# Altium schematic symbol library Capacitor - RF.SchLib: 172 symbols (part 2 of 3)
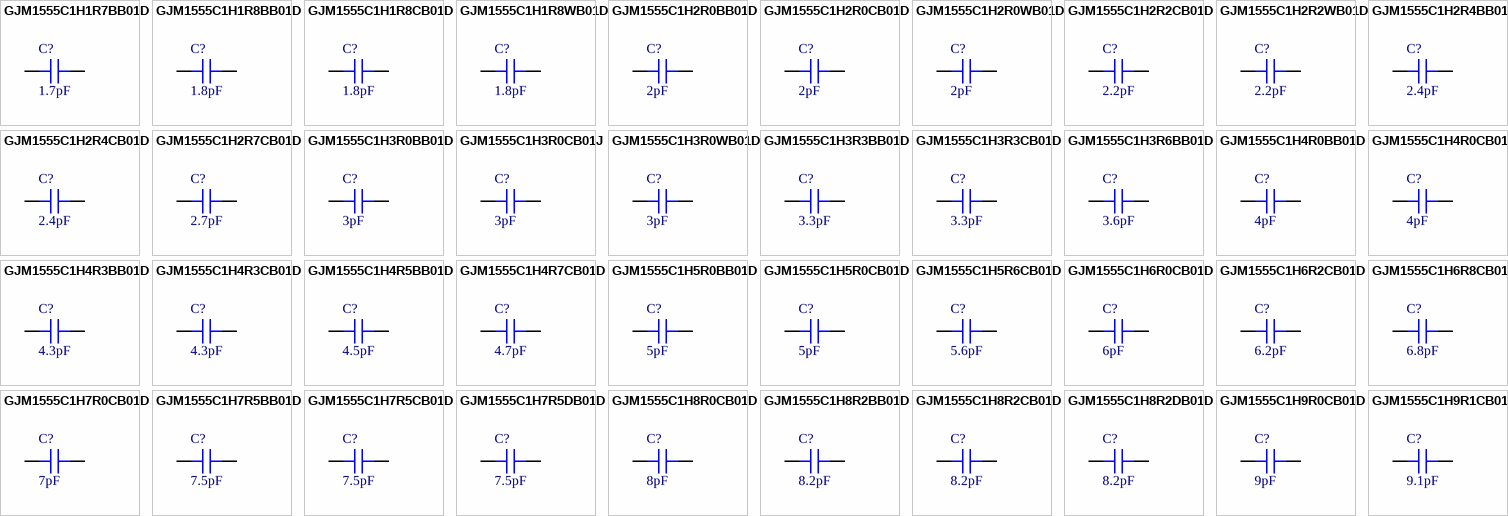
[diagram p5: symbols GJM1555C1H1R7BB01D to GJM1555C1H9R1CB01D]

## GJM1555C1H5R0CB01D
designator C?, comment 5pF
CAP CER 5PF 50V NP0 0402; Part Number: GJM1555C1H5R0CB01D; Manufacturer: Murata Electronics North America; TemperatureRange: -55C ~ 125C; TemperatureCoefficient: C0G, NP0; Tolerance: 0.25pF; Type: High Q, Low Loss; Value: 5pF; PartId: 3722; Supplier 1: Digi-Key; Supplier Part Number 1: 490-3101-2-ND; ComponentLink1Description: Datasheet; ComponentLink1URL: http://www.murata.com/~/media/webrenewal/support/library/catalog/products/capacitor/mlcc/c02e.ashx; ComponentLink2Description: Digi-Key listing; ComponentLink2URL: http://digikey.com/product-detail/en/GJM1555C1H5R0CB01D/490-3101-2-ND/702294; Voltage: 50V; Price: 0.016; Device Package: 0402 (1005 Metric)
footprint CAP 0402/1005 RF
pins: 1, 2

## GJM1555C1H5R6CB01D
designator C?, comment 5.6pF
CAP CER 5.6PF 50V NP0 0402; Part Number: GJM1555C1H5R6CB01D; Manufacturer: Murata Electronics North America; TemperatureRange: -55C ~ 125C; TemperatureCoefficient: C0G, NP0; Tolerance: 0.25pF; Type: High Q, Low Loss; Value: 5.6pF; PartId: 3734; Supplier 1: Digi-Key; Supplier Part Number 1: 490-3103-2-ND; ComponentLink1Description: Datasheet; ComponentLink1URL: http://www.murata.com/~/media/webrenewal/support/library/catalog/products/capacitor/mlcc/c02e.ashx; ComponentLink2Description: Digi-Key listing; ComponentLink2URL: http://digikey.com/product-detail/en/GJM1555C1H5R6CB01D/490-3103-2-ND/702296; Voltage: 50V; Price: 0.0211; Device Package: 0402 (1005 Metric)
footprint CAP 0402/1005 RF
pins: 1, 2

## GJM1555C1H6R0CB01D
designator C?, comment 6pF
CAP CER 6PF 50V NP0 0402; Part Number: GJM1555C1H6R0CB01D; Manufacturer: Murata Electronics North America; TemperatureRange: -55C ~ 125C; TemperatureCoefficient: C0G, NP0; Tolerance: 0.25pF; Type: High Q, Low Loss; Value: 6pF; PartId: 3726; Supplier 1: Digi-Key; Supplier Part Number 1: 490-3104-2-ND; ComponentLink1Description: Datasheet; ComponentLink1URL: http://www.murata.com/~/media/webrenewal/support/library/catalog/products/capacitor/mlcc/c02e.ashx; ComponentLink2Description: Digi-Key listing; ComponentLink2URL: http://digikey.com/product-detail/en/GJM1555C1H6R0CB01D/490-3104-2-ND/702297; Voltage: 50V; Price: 0.0211; Device Package: 0402 (1005 Metric)
footprint CAP 0402/1005 RF
pins: 1, 2

## GJM1555C1H6R2CB01D
designator C?, comment 6.2pF
CAP CER 6.2PF 50V NP0 0402; Part Number: GJM1555C1H6R2CB01D; Manufacturer: Murata Electronics North America; TemperatureRange: -55C ~ 125C; TemperatureCoefficient: C0G, NP0; Tolerance: 0.25pF; Type: High Q, Low Loss; Value: 6.2pF; PartId: 3725; Supplier 1: Digi-Key; Supplier Part Number 1: 490-3105-2-ND; ComponentLink1Description: Datasheet; ComponentLink1URL: http://www.murata.com/~/media/webrenewal/support/library/catalog/products/capacitor/mlcc/c02e.ashx; ComponentLink2Description: Digi-Key listing; ComponentLink2URL: http://digikey.com/product-detail/en/GJM1555C1H6R2CB01D/490-3105-2-ND/702298; Voltage: 50V; Price: 0.0211; Device Package: 0402 (1005 Metric)
footprint CAP 0402/1005 RF
pins: 1, 2

## GJM1555C1H6R8CB01D
designator C?, comment 6.8pF
CAP CER 6.8PF 50V NP0 0402; Part Number: GJM1555C1H6R8CB01D; Manufacturer: Murata Electronics North America; TemperatureRange: -55C ~ 125C; TemperatureCoefficient: C0G, NP0; Tolerance: 0.25pF; Type: High Q, Low Loss; Value: 6.8pF; PartId: 3723; Supplier 1: Digi-Key; Supplier Part Number 1: 490-3106-2-ND; ComponentLink1Description: Datasheet; ComponentLink1URL: http://www.murata.com/~/media/webrenewal/support/library/catalog/products/capacitor/mlcc/c02e.ashx; ComponentLink2Description: Digi-Key listing; ComponentLink2URL: http://digikey.com/product-detail/en/GJM1555C1H6R8CB01D/490-3106-2-ND/702299; Voltage: 50V; Price: 0.0211; Device Package: 0402 (1005 Metric)
footprint CAP 0402/1005 RF
pins: 1, 2

## GJM1555C1H7R0CB01D
designator C?, comment 7pF
CAP CER 7PF 50V NP0 0402; Part Number: GJM1555C1H7R0CB01D; Manufacturer: Murata Electronics North America; TemperatureRange: -55C ~ 125C; TemperatureCoefficient: C0G, NP0; Tolerance: 0.25pF; Type: High Q, Low Loss; Value: 7pF; PartId: 3736; Supplier 1: Digi-Key; Supplier Part Number 1: 490-3107-2-ND; ComponentLink1Description: Datasheet; ComponentLink1URL: http://www.murata.com/~/media/webrenewal/support/library/catalog/products/capacitor/mlcc/c02e.ashx; ComponentLink2Description: Digi-Key listing; ComponentLink2URL: http://digikey.com/product-detail/en/GJM1555C1H7R0CB01D/490-3107-2-ND/702300; Voltage: 50V; Price: 0.0211; Device Package: 0402 (1005 Metric)
footprint CAP 0402/1005 RF
pins: 1, 2

## GJM1555C1H7R5BB01D
designator C?, comment 7.5pF
CAP CER 7.5PF 50V NP0 0402; Part Number: GJM1555C1H7R5BB01D; Manufacturer: Murata Electronics North America; TemperatureRange: -55C ~ 125C; TemperatureCoefficient: C0G, NP0; Tolerance: 0.1pF; Type: High Q, Low Loss; Value: 7.5pF; PartId: 3786; Supplier 1: Digi-Key; Supplier Part Number 1: 490-11235-2-ND; ComponentLink1Description: Datasheet; ComponentLink1URL: http://www.murata.com/~/media/webrenewal/support/library/catalog/products/capacitor/mlcc/c02e.ashx; ComponentLink2Description: Digi-Key listing; ComponentLink2URL: http://digikey.com/product-detail/en/GJM1555C1H7R5BB01D/490-11235-2-ND/2593128; Voltage: 50V; Price: 0.0393; Device Package: 0402 (1005 Metric)
footprint CAP 0402/1005 RF
pins: 1, 2

## GJM1555C1H7R5CB01D
designator C?, comment 7.5pF
CAP CER 7.5PF 50V NP0 0402; Part Number: GJM1555C1H7R5CB01D; Manufacturer: Murata Electronics North America; TemperatureRange: -55C ~ 125C; TemperatureCoefficient: C0G, NP0; Tolerance: 0.25pF; Type: High Q, Low Loss; Value: 7.5pF; PartId: 3728; Supplier 1: Digi-Key; Supplier Part Number 1: 490-3108-2-ND; ComponentLink1Description: Datasheet; ComponentLink1URL: http://www.murata.com/~/media/webrenewal/support/library/catalog/products/capacitor/mlcc/c02e.ashx; ComponentLink2Description: Digi-Key listing; ComponentLink2URL: http://digikey.com/product-detail/en/GJM1555C1H7R5CB01D/490-3108-2-ND/702301; Voltage: 50V; Price: 0.0211; Device Package: 0402 (1005 Metric)
footprint CAP 0402/1005 RF
pins: 1, 2

## GJM1555C1H7R5DB01D
designator C?, comment 7.5pF
CAP CER 7.5PF 50V NP0 0402; Part Number: GJM1555C1H7R5DB01D; Manufacturer: Murata Electronics North America; TemperatureRange: -55C ~ 125C; TemperatureCoefficient: C0G, NP0; Tolerance: 0.5pF; Type: High Q, Low Loss; Value: 7.5pF; PartId: 3785; Supplier 1: Digi-Key; Supplier Part Number 1: 490-6075-2-ND; ComponentLink1Description: Datasheet; ComponentLink1URL: http://www.murata.com/~/media/webrenewal/support/library/catalog/products/capacitor/mlcc/c02e.ashx; ComponentLink2Description: Digi-Key listing; ComponentLink2URL: http://digikey.com/product-detail/en/GJM1555C1H7R5DB01D/490-6075-2-ND/2593131; Voltage: 50V; Price: 0.0211; Device Package: 0402 (1005 Metric)
footprint CAP 0402/1005 RF
pins: 1, 2

## GJM1555C1H8R0CB01D
designator C?, comment 8pF
CAP CER 8PF 50V NP0 0402; Part Number: GJM1555C1H8R0CB01D; Manufacturer: Murata Electronics North America; TemperatureRange: -55C ~ 125C; TemperatureCoefficient: C0G, NP0; Tolerance: 0.25pF; Type: High Q, Low Loss; Value: 8pF; PartId: 3731; Supplier 1: Digi-Key; Supplier Part Number 1: 490-3109-2-ND; ComponentLink1Description: Datasheet; ComponentLink1URL: http://www.murata.com/~/media/webrenewal/support/library/catalog/products/capacitor/mlcc/c02e.ashx; ComponentLink2Description: Digi-Key listing; ComponentLink2URL: http://digikey.com/product-detail/en/GJM1555C1H8R0CB01D/490-3109-2-ND/702302; Voltage: 50V; Price: 0.0211; Device Package: 0402 (1005 Metric)
footprint CAP 0402/1005 RF
pins: 1, 2

## GJM1555C1H8R2BB01D
designator C?, comment 8.2pF
CAP CER 8.2PF 50V NP0 0402; Part Number: GJM1555C1H8R2BB01D; Manufacturer: Murata Electronics North America; TemperatureRange: -55C ~ 125C; TemperatureCoefficient: C0G, NP0; Tolerance: 0.1pF; Type: High Q, Low Loss; Value: 8.2pF; PartId: 3773; Supplier 1: Digi-Key; Supplier Part Number 1: 490-11240-2-ND; ComponentLink1Description: Datasheet; ComponentLink1URL: http://www.murata.com/~/media/webrenewal/support/library/catalog/products/capacitor/mlcc/c02e.ashx; ComponentLink2Description: Digi-Key listing; ComponentLink2URL: http://digikey.com/product-detail/en/GJM1555C1H8R2BB01D/490-11240-2-ND/2593160; Voltage: 50V; Price: 0.0393; Device Package: 0402 (1005 Metric)
footprint CAP 0402/1005 RF
pins: 1, 2

## GJM1555C1H8R2CB01D
designator C?, comment 8.2pF
CAP CER 8.2PF 50V NP0 0402; Part Number: GJM1555C1H8R2CB01D; Manufacturer: Murata Electronics North America; TemperatureRange: -55C ~ 125C; TemperatureCoefficient: C0G, NP0; Tolerance: 0.25pF; Type: High Q, Low Loss; Value: 8.2pF; PartId: 3709; Supplier 1: Digi-Key; Supplier Part Number 1: 490-3110-2-ND; ComponentLink1Description: Datasheet; ComponentLink1URL: http://www.murata.com/~/media/webrenewal/support/library/catalog/products/capacitor/mlcc/c02e.ashx; ComponentLink2Description: Digi-Key listing; ComponentLink2URL: http://digikey.com/product-detail/en/GJM1555C1H8R2CB01D/490-3110-2-ND/702303; Voltage: 50V; Price: 0.0211; Device Package: 0402 (1005 Metric)
footprint CAP 0402/1005 RF
pins: 1, 2

## GJM1555C1H8R2DB01D
designator C?, comment 8.2pF
CAP CER 8.2PF 50V NP0 0402; Part Number: GJM1555C1H8R2DB01D; Manufacturer: Murata Electronics North America; TemperatureRange: -55C ~ 125C; TemperatureCoefficient: C0G, NP0; Tolerance: 0.5pF; Type: High Q, Low Loss; Value: 8.2pF; PartId: 3727; Supplier 1: Digi-Key; Supplier Part Number 1: 490-6076-2-ND; ComponentLink1Description: Datasheet; ComponentLink1URL: http://www.murata.com/~/media/webrenewal/support/library/catalog/products/capacitor/mlcc/c02e.ashx; ComponentLink2Description: Digi-Key listing; ComponentLink2URL: http://digikey.com/product-detail/en/GJM1555C1H8R2DB01D/490-6076-2-ND/2593163; Voltage: 50V; Price: 0.0211; Device Package: 0402 (1005 Metric)
footprint CAP 0402/1005 RF
pins: 1, 2

## GJM1555C1H9R0CB01D
designator C?, comment 9pF
CAP CER 9PF 50V NP0 0402; Part Number: GJM1555C1H9R0CB01D; Manufacturer: Murata Electronics North America; TemperatureRange: -55C ~ 125C; TemperatureCoefficient: C0G, NP0; Tolerance: 0.25pF; Type: High Q, Low Loss; Value: 9pF; PartId: 3732; Supplier 1: Digi-Key; Supplier Part Number 1: 490-3111-2-ND; ComponentLink1Description: Datasheet; ComponentLink1URL: http://www.murata.com/~/media/webrenewal/support/library/catalog/products/capacitor/mlcc/c02e.ashx; ComponentLink2Description: Digi-Key listing; ComponentLink2URL: http://digikey.com/product-detail/en/GJM1555C1H9R0CB01D/490-3111-2-ND/702304; Voltage: 50V; Price: 0.0211; Device Package: 0402 (1005 Metric)
footprint CAP 0402/1005 RF
pins: 1, 2

## GJM1555C1H9R1CB01D
designator C?, comment 9.1pF
CAP CER 9.1PF 50V NP0 0402; Part Number: GJM1555C1H9R1CB01D; Manufacturer: Murata Electronics North America; TemperatureRange: -55C ~ 125C; TemperatureCoefficient: C0G, NP0; Tolerance: 0.25pF; Type: High Q, Low Loss; Value: 9.1pF; PartId: 3794; Supplier 1: Digi-Key; Supplier Part Number 1: 490-3112-2-ND; ComponentLink1Description: Datasheet; ComponentLink1URL: http://www.murata.com/~/media/webrenewal/support/library/catalog/products/capacitor/mlcc/c02e.ashx; ComponentLink2Description: Digi-Key listing; ComponentLink2URL: http://digikey.com/product-detail/en/GJM1555C1H9R1CB01D/490-3112-2-ND/702305; Voltage: 50V; Price: 0.0211; Device Package: 0402 (1005 Metric)
footprint CAP 0402/1005 RF
pins: 1, 2

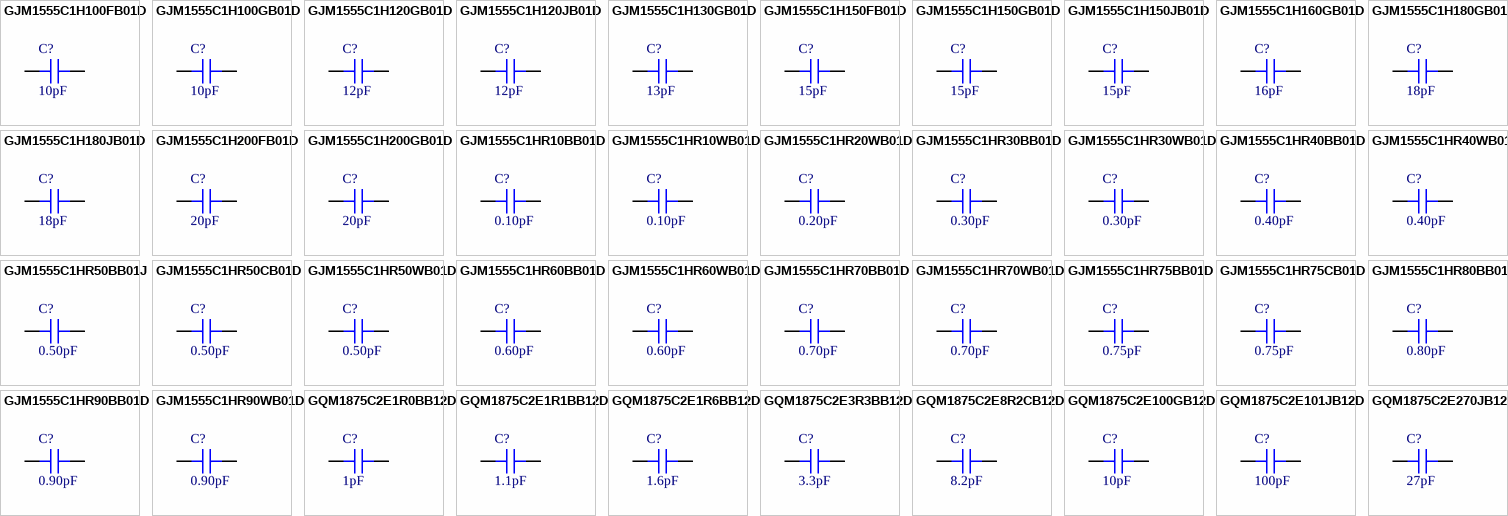
[diagram p2: symbols GJM1555C1H100FB01D to GQM1875C2E270JB12D]

## GJM1555C1H100FB01D
designator C?, comment 10pF
CAP CER 10PF 50V NP0 0402; Part Number: GJM1555C1H100FB01D; Manufacturer: Murata Electronics North America; TemperatureRange: -55C ~ 125C; TemperatureCoefficient: C0G, NP0; Tolerance: 1%; Type: High Q, Low Loss; Value: 10pF; PartId: 3745; Supplier 1: Digi-Key; Supplier Part Number 1: 490-11189-2-ND; ComponentLink1Description: Datasheet; ComponentLink1URL: http://www.murata.com/~/media/webrenewal/support/library/catalog/products/capacitor/mlcc/c02e.ashx; ComponentLink2Description: Digi-Key listing; ComponentLink2URL: http://digikey.com/product-detail/en/GJM1555C1H100FB01D/490-11189-2-ND/2592845; Voltage: 50V; Price: 0.0393; Device Package: 0402 (1005 Metric)
footprint CAP 0402/1005 RF
pins: 1, 2

## GJM1555C1H100GB01D
designator C?, comment 10pF
CAP CER 10PF 50V NP0 0402; Part Number: GJM1555C1H100GB01D; Manufacturer: Murata Electronics North America; TemperatureRange: -55C ~ 125C; TemperatureCoefficient: C0G, NP0; Tolerance: 2%; Type: High Q, Low Loss; Value: 10pF; PartId: 3739; Supplier 1: Digi-Key; Supplier Part Number 1: 490-8077-2-ND; ComponentLink1Description: Datasheet; ComponentLink1URL: http://www.murata.com/~/media/webrenewal/support/library/catalog/products/capacitor/mlcc/c02e.ashx; ComponentLink2Description: Digi-Key listing; ComponentLink2URL: http://digikey.com/product-detail/en/GJM1555C1H100GB01D/490-8077-2-ND/2592846; Voltage: 50V; Price: 0.0362; Device Package: 0402 (1005 Metric)
footprint CAP 0402/1005 RF
pins: 1, 2

## GJM1555C1H120GB01D
designator C?, comment 12pF
CAP CER 12PF 50V NP0 0402; Part Number: GJM1555C1H120GB01D; Manufacturer: Murata Electronics North America; TemperatureRange: -55C ~ 125C; TemperatureCoefficient: C0G, NP0; Tolerance: 2%; Type: High Q, Low Loss; Value: 12pF; PartId: 3741; Supplier 1: Digi-Key; Supplier Part Number 1: 490-8078-2-ND; ComponentLink1Description: Datasheet; ComponentLink1URL: http://www.murata.com/~/media/webrenewal/support/library/catalog/products/capacitor/mlcc/c02e.ashx; ComponentLink2Description: Digi-Key listing; ComponentLink2URL: http://digikey.com/product-detail/en/GJM1555C1H120GB01D/490-8078-2-ND/2592851; Voltage: 50V; Price: 0.0393; Device Package: 0402 (1005 Metric)
footprint CAP 0402/1005 RF
pins: 1, 2

## GJM1555C1H120JB01D
designator C?, comment 12pF
CAP CER 12PF 50V NP0 0402; Part Number: GJM1555C1H120JB01D; Manufacturer: Murata Electronics North America; TemperatureRange: -55C ~ 125C; TemperatureCoefficient: C0G, NP0; Tolerance: 5%; Type: High Q, Low Loss; Value: 12pF; PartId: 3795; Supplier 1: Digi-Key; Supplier Part Number 1: 490-3115-2-ND; ComponentLink1Description: Datasheet; ComponentLink1URL: http://www.murata.com/~/media/webrenewal/support/library/catalog/products/capacitor/mlcc/c02e.ashx; ComponentLink2Description: Digi-Key listing; ComponentLink2URL: http://digikey.com/product-detail/en/GJM1555C1H120JB01D/490-3115-2-ND/702308; Voltage: 50V; Price: 0.016; Device Package: 0402 (1005 Metric)
footprint CAP 0402/1005 RF
pins: 1, 2

## GJM1555C1H130GB01D
designator C?, comment 13pF
CAP CER 13PF 50V NP0 0402; Part Number: GJM1555C1H130GB01D; Manufacturer: Murata Electronics North America; TemperatureRange: -55C ~ 125C; TemperatureCoefficient: C0G, NP0; Tolerance: 2%; Type: High Q, Low Loss; Value: 13pF; PartId: 3761; Supplier 1: Digi-Key; Supplier Part Number 1: 490-8079-2-ND; ComponentLink1Description: Datasheet; ComponentLink1URL: http://www.murata.com/~/media/webrenewal/support/library/catalog/products/capacitor/mlcc/c02e.ashx; ComponentLink2Description: Digi-Key listing; ComponentLink2URL: http://digikey.com/product-detail/en/GJM1555C1H130GB01D/490-8079-2-ND/2592854; Voltage: 50V; Price: 0.0393; Device Package: 0402 (1005 Metric)
footprint CAP 0402/1005 RF
pins: 1, 2

## GJM1555C1H150FB01D
designator C?, comment 15pF
CAP CER 15PF 50V NP0 0402; Part Number: GJM1555C1H150FB01D; Manufacturer: Murata Electronics North America; TemperatureRange: -55C ~ 125C; TemperatureCoefficient: C0G, NP0; Tolerance: 1%; Type: High Q, Low Loss; Value: 15pF; PartId: 3787; Supplier 1: Digi-Key; Supplier Part Number 1: 490-11191-2-ND; ComponentLink1Description: Datasheet; ComponentLink1URL: http://www.murata.com/~/media/webrenewal/support/library/catalog/products/capacitor/mlcc/c02e.ashx; ComponentLink2Description: Digi-Key listing; ComponentLink2URL: http://digikey.com/product-detail/en/GJM1555C1H150FB01D/490-11191-2-ND/2592855; Voltage: 50V; Price: 0.0466; Device Package: 0402 (1005 Metric)
footprint CAP 0402/1005 RF
pins: 1, 2

## GJM1555C1H150GB01D
designator C?, comment 15pF
CAP CER 15PF 50V NP0 0402; Part Number: GJM1555C1H150GB01D; Manufacturer: Murata Electronics North America; TemperatureRange: -55C ~ 125C; TemperatureCoefficient: C0G, NP0; Tolerance: 2%; Type: High Q, Low Loss; Value: 15pF; PartId: 3750; Supplier 1: Digi-Key; Supplier Part Number 1: 490-8080-2-ND; ComponentLink1Description: Datasheet; ComponentLink1URL: http://www.murata.com/~/media/webrenewal/support/library/catalog/products/capacitor/mlcc/c02e.ashx; ComponentLink2Description: Digi-Key listing; ComponentLink2URL: http://digikey.com/product-detail/en/GJM1555C1H150GB01D/490-8080-2-ND/2592856; Voltage: 50V; Price: 0.0393; Device Package: 0402 (1005 Metric)
footprint CAP 0402/1005 RF
pins: 1, 2

## GJM1555C1H150JB01D
designator C?, comment 15pF
CAP CER 15PF 50V NP0 0402; Part Number: GJM1555C1H150JB01D; Manufacturer: Murata Electronics North America; TemperatureRange: -55C ~ 125C; TemperatureCoefficient: C0G, NP0; Tolerance: 5%; Type: High Q, Low Loss; Value: 15pF; PartId: 3713; Supplier 1: Digi-Key; Supplier Part Number 1: 490-3117-2-ND; ComponentLink1Description: Datasheet; ComponentLink1URL: http://www.murata.com/~/media/webrenewal/support/library/catalog/products/capacitor/mlcc/c02e.ashx; ComponentLink2Description: Digi-Key listing; ComponentLink2URL: http://digikey.com/product-detail/en/GJM1555C1H150JB01D/490-3117-2-ND/702310; Voltage: 50V; Price: 0.016; Device Package: 0402 (1005 Metric)
footprint CAP 0402/1005 RF
pins: 1, 2

## GJM1555C1H160GB01D
designator C?, comment 16pF
CAP CER 16PF 50V NP0 0402; Part Number: GJM1555C1H160GB01D; Manufacturer: Murata Electronics North America; TemperatureRange: -55C ~ 125C; TemperatureCoefficient: C0G, NP0; Tolerance: 2%; Type: High Q, Low Loss; Value: 16pF; PartId: 3742; Supplier 1: Digi-Key; Supplier Part Number 1: 490-8081-2-ND; ComponentLink1Description: Datasheet; ComponentLink1URL: http://www.murata.com/~/media/webrenewal/support/library/catalog/products/capacitor/mlcc/c02e.ashx; ComponentLink2Description: Digi-Key listing; ComponentLink2URL: http://digikey.com/product-detail/en/GJM1555C1H160GB01D/490-8081-2-ND/2592859; Voltage: 50V; Price: 0.0393; Device Package: 0402 (1005 Metric)
footprint CAP 0402/1005 RF
pins: 1, 2

## GJM1555C1H180GB01D
designator C?, comment 18pF
CAP CER 18PF 50V NP0 0402; Part Number: GJM1555C1H180GB01D; Manufacturer: Murata Electronics North America; TemperatureRange: -55C ~ 125C; TemperatureCoefficient: C0G, NP0; Tolerance: 2%; Type: High Q, Low Loss; Value: 18pF; PartId: 3743; Supplier 1: Digi-Key; Supplier Part Number 1: 490-8082-2-ND; ComponentLink1Description: Datasheet; ComponentLink1URL: http://www.murata.com/~/media/webrenewal/support/library/catalog/products/capacitor/mlcc/c02e.ashx; ComponentLink2Description: Digi-Key listing; ComponentLink2URL: http://digikey.com/product-detail/en/GJM1555C1H180GB01D/490-8082-2-ND/2592861; Voltage: 50V; Price: 0.0393; Device Package: 0402 (1005 Metric)
footprint CAP 0402/1005 RF
pins: 1, 2

## GJM1555C1H180JB01D
designator C?, comment 18pF
CAP CER 18PF 50V NP0 0402; Part Number: GJM1555C1H180JB01D; Manufacturer: Murata Electronics North America; TemperatureRange: -55C ~ 125C; TemperatureCoefficient: C0G, NP0; Tolerance: 5%; Type: High Q, Low Loss; Value: 18pF; PartId: 3720; Supplier 1: Digi-Key; Supplier Part Number 1: 490-3119-2-ND; ComponentLink1Description: Datasheet; ComponentLink1URL: http://www.murata.com/~/media/webrenewal/support/library/catalog/products/capacitor/mlcc/c02e.ashx; ComponentLink2Description: Digi-Key listing; ComponentLink2URL: http://digikey.com/product-detail/en/GJM1555C1H180JB01D/490-3119-2-ND/702312; Voltage: 50V; Price: 0.016; Device Package: 0402 (1005 Metric)
footprint CAP 0402/1005 RF
pins: 1, 2

## GJM1555C1H200FB01D
designator C?, comment 20pF
CAP CER 20PF 50V NP0 0402; Part Number: GJM1555C1H200FB01D; Manufacturer: Murata Electronics North America; TemperatureRange: -55C ~ 125C; TemperatureCoefficient: C0G, NP0; Tolerance: 1%; Type: High Q, Low Loss; Value: 20pF; PartId: 3769; Supplier 1: Digi-Key; Supplier Part Number 1: 490-11204-2-ND; ComponentLink1Description: Datasheet; ComponentLink1URL: http://www.murata.com/~/media/webrenewal/support/library/catalog/products/capacitor/mlcc/c02e.ashx; ComponentLink2Description: Digi-Key listing; ComponentLink2URL: http://digikey.com/product-detail/en/GJM1555C1H200FB01D/490-11204-2-ND/2592908; Voltage: 50V; Price: 0.0466; Device Package: 0402 (1005 Metric)
footprint CAP 0402/1005 RF
pins: 1, 2

## GJM1555C1H200GB01D
designator C?, comment 20pF
CAP CER 20PF 50V NP0 0402; Part Number: GJM1555C1H200GB01D; Manufacturer: Murata Electronics North America; TemperatureRange: -55C ~ 125C; TemperatureCoefficient: C0G, NP0; Tolerance: 2%; Type: High Q, Low Loss; Value: 20pF; PartId: 3752; Supplier 1: Digi-Key; Supplier Part Number 1: 490-8090-2-ND; ComponentLink1Description: Datasheet; ComponentLink1URL: http://www.murata.com/~/media/webrenewal/support/library/catalog/products/capacitor/mlcc/c02e.ashx; ComponentLink2Description: Digi-Key listing; ComponentLink2URL: http://digikey.com/product-detail/en/GJM1555C1H200GB01D/490-8090-2-ND/2592909; Voltage: 50V; Price: 0.0393; Device Package: 0402 (1005 Metric)
footprint CAP 0402/1005 RF
pins: 1, 2

## GJM1555C1HR10BB01D
designator C?, comment 0.10pF
CAP CER 0.1PF 50V NP0 0402; Part Number: GJM1555C1HR10BB01D; Manufacturer: Murata Electronics North America; TemperatureRange: -55C ~ 125C; TemperatureCoefficient: C0G, NP0; Type: High Q, Low Loss; Value: 0.10pF; PartId: 3737; Supplier 1: Digi-Key; Supplier Part Number 1: 490-3077-2-ND; ComponentLink1Description: Datasheet; ComponentLink1URL: http://www.murata.com/~/media/webrenewal/support/library/catalog/products/capacitor/mlcc/c02e.ashx; ComponentLink2Description: Digi-Key listing; ComponentLink2URL: http://digikey.com/product-detail/en/GJM1555C1HR10BB01D/490-3077-2-ND/702270; Tolerance: 0.1pF; Voltage: 50V; Price: 0.0298; Device Package: 0402 (1005 Metric)
footprint CAP 0402/1005 RF
pins: 1, 2

## GJM1555C1HR10WB01D
designator C?, comment 0.10pF
CAP CER 0.1PF 50V NP0 0402; Part Number: GJM1555C1HR10WB01D; Manufacturer: Murata Electronics North America; TemperatureRange: -55C ~ 125C; TemperatureCoefficient: C0G, NP0; Tolerance: 0.05pF; Type: High Q, Low Loss; Value: 0.10pF; PartId: 3784; Supplier 1: Digi-Key; Supplier Part Number 1: 490-11246-2-ND; ComponentLink1Description: Datasheet; ComponentLink1URL: http://www.murata.com/~/media/webrenewal/support/library/catalog/products/capacitor/mlcc/c02e.ashx; ComponentLink2Description: Digi-Key listing; ComponentLink2URL: http://digikey.com/product-detail/en/GJM1555C1HR10WB01D/490-11246-2-ND/2593239; Voltage: 50V; Price: 0.0678; Device Package: 0402 (1005 Metric)
footprint CAP 0402/1005 RF
pins: 1, 2

## GJM1555C1HR20WB01D
designator C?, comment 0.20pF
CAP CER 0.2PF 50V NP0 0402; Part Number: GJM1555C1HR20WB01D; Manufacturer: Murata Electronics North America; TemperatureRange: -55C ~ 125C; TemperatureCoefficient: C0G, NP0; Tolerance: 0.05pF; Type: High Q, Low Loss; Value: 0.20pF; PartId: 3775; Supplier 1: Digi-Key; Supplier Part Number 1: 490-11247-2-ND; ComponentLink1Description: Datasheet; ComponentLink1URL: http://www.murata.com/~/media/webrenewal/support/library/catalog/products/capacitor/mlcc/c02e.ashx; ComponentLink2Description: Digi-Key listing; ComponentLink2URL: http://digikey.com/product-detail/en/GJM1555C1HR20WB01D/490-11247-2-ND/2593241; Voltage: 50V; Price: 0.0678; Device Package: 0402 (1005 Metric)
footprint CAP 0402/1005 RF
pins: 1, 2

## GJM1555C1HR30BB01D
designator C?, comment 0.30pF
CAP CER 0.30PF 50V NP0 0402; Part Number: GJM1555C1HR30BB01D; Manufacturer: Murata Electronics North America; TemperatureRange: -55C ~ 125C; TemperatureCoefficient: C0G, NP0; Tolerance: 0.1pF; Type: High Q, Low Loss; Value: 0.30pF; PartId: 3756; Supplier 1: Digi-Key; Supplier Part Number 1: 490-3079-2-ND; ComponentLink1Description: Datasheet; ComponentLink1URL: http://www.murata.com/~/media/webrenewal/support/library/catalog/products/capacitor/mlcc/c02e.ashx; ComponentLink2Description: Digi-Key listing; ComponentLink2URL: http://digikey.com/product-detail/en/GJM1555C1HR30BB01D/490-3079-2-ND/702272; Voltage: 50V; Price: 0.0393; Device Package: 0402 (1005 Metric)
footprint CAP 0402/1005 RF
pins: 1, 2

## GJM1555C1HR30WB01D
designator C?, comment 0.30pF
CAP CER 0.30PF 50V NP0 0402; Part Number: GJM1555C1HR30WB01D; Manufacturer: Murata Electronics North America; TemperatureRange: -55C ~ 125C; TemperatureCoefficient: C0G, NP0; Tolerance: 0.05pF; Type: High Q, Low Loss; Value: 0.30pF; PartId: 3778; Supplier 1: Digi-Key; Supplier Part Number 1: 490-11248-2-ND; ComponentLink1Description: Datasheet; ComponentLink1URL: http://www.murata.com/~/media/webrenewal/support/library/catalog/products/capacitor/mlcc/c02e.ashx; ComponentLink2Description: Digi-Key listing; ComponentLink2URL: http://digikey.com/product-detail/en/GJM1555C1HR30WB01D/490-11248-2-ND/2593245; Voltage: 50V; Price: 0.0678; Device Package: 0402 (1005 Metric)
footprint CAP 0402/1005 RF
pins: 1, 2

## GJM1555C1HR40BB01D
designator C?, comment 0.40pF
CAP CER 0.40PF 50V NP0 0402; Part Number: GJM1555C1HR40BB01D; Manufacturer: Murata Electronics North America; TemperatureRange: -55C ~ 125C; TemperatureCoefficient: C0G, NP0; Tolerance: 0.1pF; Type: High Q, Low Loss; Value: 0.40pF; PartId: 3746; Supplier 1: Digi-Key; Supplier Part Number 1: 490-3080-2-ND; ComponentLink1Description: Datasheet; ComponentLink1URL: http://www.murata.com/~/media/webrenewal/support/library/catalog/products/capacitor/mlcc/c02e.ashx; ComponentLink2Description: Digi-Key listing; ComponentLink2URL: http://digikey.com/product-detail/en/GJM1555C1HR40BB01D/490-3080-2-ND/702273; Voltage: 50V; Price: 0.0393; Device Package: 0402 (1005 Metric)
footprint CAP 0402/1005 RF
pins: 1, 2

## GJM1555C1HR40WB01D
designator C?, comment 0.40pF
CAP CER 0.40PF 50V NP0 0402; Part Number: GJM1555C1HR40WB01D; Manufacturer: Murata Electronics North America; TemperatureRange: -55C ~ 125C; TemperatureCoefficient: C0G, NP0; Tolerance: 0.05pF; Type: High Q, Low Loss; Value: 0.40pF; PartId: 3789; Supplier 1: Digi-Key; Supplier Part Number 1: 490-11249-2-ND; ComponentLink1Description: Datasheet; ComponentLink1URL: http://www.murata.com/~/media/webrenewal/support/library/catalog/products/capacitor/mlcc/c02e.ashx; ComponentLink2Description: Digi-Key listing; ComponentLink2URL: http://digikey.com/product-detail/en/GJM1555C1HR40WB01D/490-11249-2-ND/2593249; Voltage: 50V; Price: 0.0678; Device Package: 0402 (1005 Metric)
footprint CAP 0402/1005 RF
pins: 1, 2

## GJM1555C1HR50BB01J
designator C?, comment 0.50pF
CAP CER 0.50PF 50V NP0 0402; Part Number: GJM1555C1HR50BB01J; Manufacturer: Murata Electronics North America; TemperatureRange: -55C ~ 125C; TemperatureCoefficient: C0G, NP0; Tolerance: 0.1pF; Type: High Q, Low Loss; Value: 0.50pF; PartId: 3738; Supplier 1: Digi-Key; Supplier Part Number 1: 490-8105-2-ND; ComponentLink1Description: Datasheet; ComponentLink1URL: http://www.murata.com/~/media/webrenewal/support/library/catalog/products/capacitor/mlcc/c02e.ashx; ComponentLink2Description: Digi-Key listing; ComponentLink2URL: http://digikey.com/product-detail/en/GJM1555C1HR50BB01J/490-8105-2-ND/2593251; Voltage: 50V; Price: 0.0324; Device Package: 0402 (1005 Metric)
footprint CAP 0402/1005 RF
pins: 1, 2

## GJM1555C1HR50CB01D
designator C?, comment 0.50pF
CAP CER 0.50PF 50V NP0 0402; Part Number: GJM1555C1HR50CB01D; Manufacturer: Murata Electronics North America; TemperatureRange: -55C ~ 125C; TemperatureCoefficient: C0G, NP0; Tolerance: 0.25pF; Type: High Q, Low Loss; Value: 0.50pF; PartId: 3792; Supplier 1: Digi-Key; Supplier Part Number 1: 490-3081-2-ND; ComponentLink1Description: Datasheet; ComponentLink1URL: http://www.murata.com/~/media/webrenewal/support/library/catalog/products/capacitor/mlcc/c02e.ashx; ComponentLink2Description: Digi-Key listing; ComponentLink2URL: http://digikey.com/product-detail/en/GJM1555C1HR50CB01D/490-3081-2-ND/702274; Voltage: 50V; Price: 0.0211; Device Package: 0402 (1005 Metric)
footprint CAP 0402/1005 RF
pins: 1, 2

## GJM1555C1HR50WB01D
designator C?, comment 0.50pF
CAP CER 0.50PF 50V NP0 0402; Part Number: GJM1555C1HR50WB01D; Manufacturer: Murata Electronics North America; TemperatureRange: -55C ~ 125C; TemperatureCoefficient: C0G, NP0; Tolerance: 0.05pF; Type: High Q, Low Loss; Value: 0.50pF; PartId: 3770; Supplier 1: Digi-Key; Supplier Part Number 1: 490-11250-2-ND; ComponentLink1Description: Datasheet; ComponentLink1URL: http://www.murata.com/~/media/webrenewal/support/library/catalog/products/capacitor/mlcc/c02e.ashx; ComponentLink2Description: Digi-Key listing; ComponentLink2URL: http://digikey.com/product-detail/en/GJM1555C1HR50WB01D/490-11250-2-ND/2593253; Voltage: 50V; Price: 0.0678; Device Package: 0402 (1005 Metric)
footprint CAP 0402/1005 RF
pins: 1, 2

## GJM1555C1HR60BB01D
designator C?, comment 0.60pF
CAP CER 0.60PF 50V NP0 0402; Part Number: GJM1555C1HR60BB01D; Manufacturer: Murata Electronics North America; TemperatureRange: -55C ~ 125C; TemperatureCoefficient: C0G, NP0; Tolerance: 0.1pF; Type: High Q, Low Loss; Value: 0.60pF; PartId: 3759; Supplier 1: Digi-Key; Supplier Part Number 1: 490-6078-2-ND; ComponentLink1Description: Datasheet; ComponentLink1URL: http://www.murata.com/~/media/webrenewal/support/library/catalog/products/capacitor/mlcc/c02e.ashx; ComponentLink2Description: Digi-Key listing; ComponentLink2URL: http://digikey.com/product-detail/en/GJM1555C1HR60BB01D/490-6078-2-ND/2593254; Voltage: 50V; Price: 0.0393; Device Package: 0402 (1005 Metric)
footprint CAP 0402/1005 RF
pins: 1, 2

## GJM1555C1HR60WB01D
designator C?, comment 0.60pF
CAP CER 0.60PF 50V NP0 0402; Part Number: GJM1555C1HR60WB01D; Manufacturer: Murata Electronics North America; TemperatureRange: -55C ~ 125C; TemperatureCoefficient: C0G, NP0; Tolerance: 0.05pF; Type: High Q, Low Loss; Value: 0.60pF; PartId: 3781; Supplier 1: Digi-Key; Supplier Part Number 1: 490-11251-2-ND; ComponentLink1Description: Datasheet; ComponentLink1URL: http://www.murata.com/~/media/webrenewal/support/library/catalog/products/capacitor/mlcc/c02e.ashx; ComponentLink2Description: Digi-Key listing; ComponentLink2URL: http://digikey.com/product-detail/en/GJM1555C1HR60WB01D/490-11251-2-ND/2593258; Voltage: 50V; Price: 0.0678; Device Package: 0402 (1005 Metric)
footprint CAP 0402/1005 RF
pins: 1, 2

## GJM1555C1HR70BB01D
designator C?, comment 0.70pF
CAP CER 0.70PF 50V NP0 0402; Part Number: GJM1555C1HR70BB01D; Manufacturer: Murata Electronics North America; TemperatureRange: -55C ~ 125C; TemperatureCoefficient: C0G, NP0; Tolerance: 0.1pF; Type: High Q, Low Loss; Value: 0.70pF; PartId: 3749; Supplier 1: Digi-Key; Supplier Part Number 1: 490-6079-2-ND; ComponentLink1Description: Datasheet; ComponentLink1URL: http://www.murata.com/~/media/webrenewal/support/library/catalog/products/capacitor/mlcc/c02e.ashx; ComponentLink2Description: Digi-Key listing; ComponentLink2URL: http://digikey.com/product-detail/en/GJM1555C1HR70BB01D/490-6079-2-ND/2593259; Voltage: 50V; Price: 0.0393; Device Package: 0402 (1005 Metric)
footprint CAP 0402/1005 RF
pins: 1, 2

## GJM1555C1HR70WB01D
designator C?, comment 0.70pF
CAP CER 0.70PF 50V NP0 0402; Part Number: GJM1555C1HR70WB01D; Manufacturer: Murata Electronics North America; TemperatureRange: -55C ~ 125C; TemperatureCoefficient: C0G, NP0; Tolerance: 0.05pF; Type: High Q, Low Loss; Value: 0.70pF; PartId: 3776; Supplier 1: Digi-Key; Supplier Part Number 1: 490-11252-2-ND; ComponentLink1Description: Datasheet; ComponentLink1URL: http://www.murata.com/~/media/webrenewal/support/library/catalog/products/capacitor/mlcc/c02e.ashx; ComponentLink2Description: Digi-Key listing; ComponentLink2URL: http://digikey.com/product-detail/en/GJM1555C1HR70WB01D/490-11252-2-ND/2330145; Voltage: 50V; Price: 0.0678; Device Package: 0402 (1005 Metric)
footprint CAP 0402/1005 RF
pins: 1, 2

## GJM1555C1HR75BB01D
designator C?, comment 0.75pF
CAP CER 0.75PF 50V NP0 0402; Part Number: GJM1555C1HR75BB01D; Manufacturer: Murata Electronics North America; TemperatureRange: -55C ~ 125C; TemperatureCoefficient: C0G, NP0; Tolerance: 0.1pF; Type: High Q, Low Loss; Value: 0.75pF; PartId: 3755; Supplier 1: Digi-Key; Supplier Part Number 1: 490-8106-2-ND; ComponentLink1Description: Datasheet; ComponentLink1URL: http://www.murata.com/~/media/webrenewal/support/library/catalog/products/capacitor/mlcc/c02e.ashx; ComponentLink2Description: Digi-Key listing; ComponentLink2URL: http://digikey.com/product-detail/en/GJM1555C1HR75BB01D/490-8106-2-ND/2593263; Voltage: 50V; Price: 0.0393; Device Package: 0402 (1005 Metric)
footprint CAP 0402/1005 RF
pins: 1, 2

## GJM1555C1HR75CB01D
designator C?, comment 0.75pF
CAP CER 0.75PF 50V NP0 0402; Part Number: GJM1555C1HR75CB01D; Manufacturer: Murata Electronics North America; TemperatureRange: -55C ~ 125C; TemperatureCoefficient: C0G, NP0; Tolerance: 0.25pF; Type: High Q, Low Loss; Value: 0.75pF; PartId: 3772; Supplier 1: Digi-Key; Supplier Part Number 1: 490-3082-2-ND; ComponentLink1Description: Datasheet; ComponentLink1URL: http://www.murata.com/~/media/webrenewal/support/library/catalog/products/capacitor/mlcc/c02e.ashx; ComponentLink2Description: Digi-Key listing; ComponentLink2URL: http://digikey.com/product-detail/en/GJM1555C1HR75CB01D/490-3082-2-ND/702275; Voltage: 50V; Price: 0.0211; Device Package: 0402 (1005 Metric)
footprint CAP 0402/1005 RF
pins: 1, 2

## GJM1555C1HR80BB01D
designator C?, comment 0.80pF
CAP CER 0.80PF 50V NP0 0402; Part Number: GJM1555C1HR80BB01D; Manufacturer: Murata Electronics North America; TemperatureRange: -55C ~ 125C; TemperatureCoefficient: C0G, NP0; Tolerance: 0.1pF; Type: High Q, Low Loss; Value: 0.80pF; PartId: 3740; Supplier 1: Digi-Key; Supplier Part Number 1: 490-6080-2-ND; ComponentLink1Description: Datasheet; ComponentLink1URL: http://www.murata.com/~/media/webrenewal/support/library/catalog/products/capacitor/mlcc/c02e.ashx; ComponentLink2Description: Digi-Key listing; ComponentLink2URL: http://digikey.com/product-detail/en/GJM1555C1HR80BB01D/490-6080-2-ND/2593264; Voltage: 50V; Price: 0.0393; Device Package: 0402 (1005 Metric)
footprint CAP 0402/1005 RF
pins: 1, 2

## GJM1555C1HR90BB01D
designator C?, comment 0.90pF
CAP CER 0.90PF 50V NP0 0402; Part Number: GJM1555C1HR90BB01D; Manufacturer: Murata Electronics North America; TemperatureRange: -55C ~ 125C; TemperatureCoefficient: C0G, NP0; Tolerance: 0.1pF; Type: High Q, Low Loss; Value: 0.90pF; PartId: 3760; Supplier 1: Digi-Key; Supplier Part Number 1: 490-6081-2-ND; ComponentLink1Description: Datasheet; ComponentLink1URL: http://www.murata.com/~/media/webrenewal/support/library/catalog/products/capacitor/mlcc/c02e.ashx; ComponentLink2Description: Digi-Key listing; ComponentLink2URL: http://digikey.com/product-detail/en/GJM1555C1HR90BB01D/490-6081-2-ND/2593268; Voltage: 50V; Price: 0.0393; Device Package: 0402 (1005 Metric)
footprint CAP 0402/1005 RF
pins: 1, 2

## GJM1555C1HR90WB01D
designator C?, comment 0.90pF
CAP CER 0.90PF 50V NP0 0402; Part Number: GJM1555C1HR90WB01D; Manufacturer: Murata Electronics North America; TemperatureRange: -55C ~ 125C; TemperatureCoefficient: C0G, NP0; Tolerance: 0.05pF; Type: High Q, Low Loss; Value: 0.90pF; PartId: 3777; Supplier 1: Digi-Key; Supplier Part Number 1: 490-11254-2-ND; ComponentLink1Description: Datasheet; ComponentLink1URL: http://www.murata.com/~/media/webrenewal/support/library/catalog/products/capacitor/mlcc/c02e.ashx; ComponentLink2Description: Digi-Key listing; ComponentLink2URL: http://digikey.com/product-detail/en/GJM1555C1HR90WB01D/490-11254-2-ND/2593272; Voltage: 50V; Price: 0.0678; Device Package: 0402 (1005 Metric)
footprint CAP 0402/1005 RF
pins: 1, 2

## GQM1875C2E1R0BB12D
designator C?, comment 1pF
CAP CER 1PF 250V NP0 0603; Part Number: GQM1875C2E1R0BB12D; Manufacturer: Murata Electronics North America; TemperatureRange: -55C ~ 125C; TemperatureCoefficient: C0G, NP0; Tolerance: 0.1pF; Type: High Q, Low Loss; Value: 1pF; PartId: 3831; Supplier 1: Digi-Key; Supplier Part Number 1: 490-8121-2-ND; ComponentLink1Description: Datasheet; ComponentLink1URL: http://www.murata.com/~/media/webrenewal/support/library/catalog/products/capacitor/mlcc/c02e.ashx; ComponentLink2Description: Digi-Key listing; ComponentLink2URL: http://digikey.com/product-detail/en/GQM1875C2E1R0BB12D/490-8121-2-ND/2593391; Voltage: 250V; Price: 0.2731; Device Package: 0603 (1608 Metric)
footprint CAP 0603/1608 RF
pins: 1, 2

## GQM1875C2E1R1BB12D
designator C?, comment 1.1pF
CAP CER 1.1PF 250V NP0 0603; Part Number: GQM1875C2E1R1BB12D; Manufacturer: Murata Electronics North America; TemperatureRange: -55C ~ 125C; TemperatureCoefficient: C0G, NP0; Tolerance: 0.1pF; Type: High Q, Low Loss; Value: 1.1pF; PartId: 3844; Supplier 1: Digi-Key; Supplier Part Number 1: 490-8122-2-ND; ComponentLink1Description: Datasheet; ComponentLink1URL: http://www.murata.com/~/media/webrenewal/support/library/catalog/products/capacitor/mlcc/c02e.ashx; ComponentLink2Description: Digi-Key listing; ComponentLink2URL: http://digikey.com/product-detail/en/GQM1875C2E1R1BB12D/490-8122-2-ND/2593393; Voltage: 250V; Price: 0.2731; Device Package: 0603 (1608 Metric)
footprint CAP 0603/1608 RF
pins: 1, 2

## GQM1875C2E1R6BB12D
designator C?, comment 1.6pF
CAP CER 1.6PF 250V NP0 0603; Part Number: GQM1875C2E1R6BB12D; Manufacturer: Murata Electronics North America; TemperatureRange: -55C ~ 125C; TemperatureCoefficient: C0G, NP0; Tolerance: 0.1pF; Type: High Q, Low Loss; Value: 1.6pF; PartId: 3830; Supplier 1: Digi-Key; Supplier Part Number 1: 490-8123-2-ND; ComponentLink1Description: Datasheet; ComponentLink1URL: http://www.murata.com/~/media/webrenewal/support/library/catalog/products/capacitor/mlcc/c02e.ashx; ComponentLink2Description: Digi-Key listing; ComponentLink2URL: http://digikey.com/product-detail/en/GQM1875C2E1R6BB12D/490-8123-2-ND/2593401; Voltage: 250V; Price: 0.2731; Device Package: 0603 (1608 Metric)
footprint CAP 0603/1608 RF
pins: 1, 2

## GQM1875C2E3R3BB12D
designator C?, comment 3.3pF
CAP CER 3.3PF 250V NP0 0603; Part Number: GQM1875C2E3R3BB12D; Manufacturer: Murata Electronics North America; TemperatureRange: -55C ~ 125C; TemperatureCoefficient: C0G, NP0; Tolerance: 0.1pF; Type: High Q, Low Loss; Value: 3.3pF; PartId: 3845; Supplier 1: Digi-Key; Supplier Part Number 1: 490-8126-2-ND; ComponentLink1Description: Datasheet; ComponentLink1URL: http://www.murata.com/~/media/webrenewal/support/library/catalog/products/capacitor/mlcc/c02e.ashx; ComponentLink2Description: Digi-Key listing; ComponentLink2URL: http://digikey.com/product-detail/en/GQM1875C2E3R3BB12D/490-8126-2-ND/2593431; Voltage: 250V; Price: 0.2731; Device Package: 0603 (1608 Metric)
footprint CAP 0603/1608 RF
pins: 1, 2

## GQM1875C2E8R2CB12D
designator C?, comment 8.2pF
CAP CER 8.2PF 250V NP0 0603; Part Number: GQM1875C2E8R2CB12D; Manufacturer: Murata Electronics North America; TemperatureRange: -55C ~ 125C; TemperatureCoefficient: C0G, NP0; Tolerance: 0.25pF; Type: High Q, Low Loss; Value: 8.2pF; PartId: 3843; Supplier 1: Digi-Key; Supplier Part Number 1: 490-5902-2-ND; ComponentLink1Description: Datasheet; ComponentLink1URL: http://www.murata.com/~/media/webrenewal/support/library/catalog/products/capacitor/mlcc/c02e.ashx; ComponentLink2Description: Digi-Key listing; ComponentLink2URL: http://digikey.com/product-detail/en/GQM1875C2E8R2CB12D/490-5902-2-ND/2593465; Voltage: 250V; Price: 0.2491; Device Package: 0603 (1608 Metric)
footprint CAP 0603/1608 RF
pins: 1, 2

## GQM1875C2E100GB12D
designator C?, comment 10pF
CAP CER 10PF 250V NP0 0603; Part Number: GQM1875C2E100GB12D; Manufacturer: Murata Electronics North America; TemperatureRange: -55C ~ 125C; TemperatureCoefficient: C0G, NP0; Tolerance: 2%; Type: High Q, Low Loss; Value: 10pF; PartId: 3847; Supplier 1: Digi-Key; Supplier Part Number 1: 490-8119-2-ND; ComponentLink1Description: Datasheet; ComponentLink1URL: http://www.murata.com/~/media/webrenewal/support/library/catalog/products/capacitor/mlcc/c02e.ashx; ComponentLink2Description: Digi-Key listing; ComponentLink2URL: http://digikey.com/product-detail/en/GQM1875C2E100GB12D/490-8119-2-ND/2593377; Voltage: 250V; Price: 0.303; Device Package: 0603 (1608 Metric)
footprint CAP 0603/1608 RF
pins: 1, 2

## GQM1875C2E101JB12D
designator C?, comment 100pF
CAP CER 100PF 250V NP0 0603; Part Number: GQM1875C2E101JB12D; Manufacturer: Murata Electronics North America; TemperatureRange: -55C ~ 125C; TemperatureCoefficient: C0G, NP0; Tolerance: 5%; Type: High Q, Low Loss; Value: 100pF; PartId: 3813; Supplier 1: Digi-Key; Supplier Part Number 1: 490-7173-2-ND; ComponentLink1Description: Datasheet; ComponentLink1URL: http://www.murata.com/~/media/webrenewal/support/library/catalog/products/capacitor/mlcc/c02e.ashx; ComponentLink2Description: Digi-Key listing; ComponentLink2URL: http://digikey.com/product-detail/en/GQM1875C2E101JB12D/490-7173-2-ND/3900471; Voltage: 250V; Price: 0.1915; Device Package: 0603 (1608 Metric)
footprint CAP 0603/1608 RF
pins: 1, 2

## GQM1875C2E270JB12D
designator C?, comment 27pF
CAP CER 27PF 250V NP0 0603; Part Number: GQM1875C2E270JB12D; Manufacturer: Murata Electronics North America; TemperatureRange: -55C ~ 125C; TemperatureCoefficient: C0G, NP0; Tolerance: 5%; Type: High Q, Low Loss; Value: 27pF; PartId: 3834; Supplier 1: Digi-Key; Supplier Part Number 1: 490-5903-2-ND; ComponentLink1Description: Datasheet; ComponentLink1URL: http://www.murata.com/~/media/webrenewal/support/library/catalog/products/capacitor/mlcc/c02e.ashx; ComponentLink2Description: Digi-Key listing; ComponentLink2URL: http://digikey.com/product-detail/en/GQM1875C2E270JB12D/490-5903-2-ND/2593412; Voltage: 250V; Price: 0.303; Device Package: 0603 (1608 Metric)
footprint CAP 0603/1608 RF
pins: 1, 2

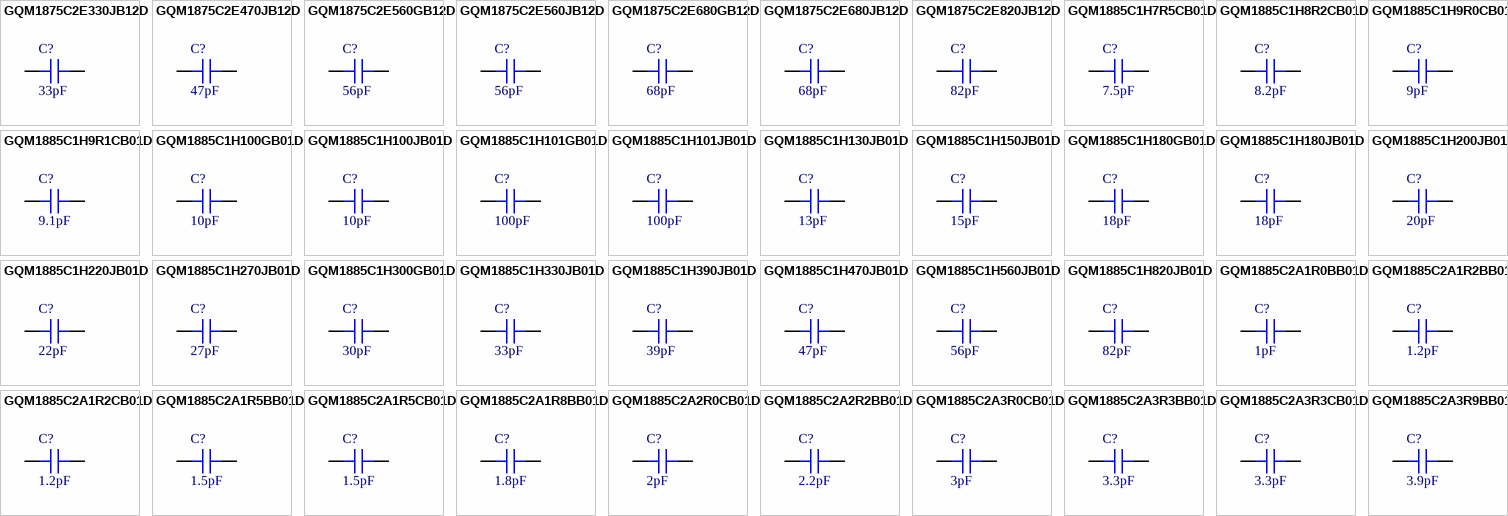
[diagram p3: symbols GQM1875C2E330JB12D to GQM1885C2A3R9BB01D]

## GQM1875C2E330JB12D
designator C?, comment 33pF
CAP CER 33PF 250V NP0 0603; Part Number: GQM1875C2E330JB12D; Manufacturer: Murata Electronics North America; TemperatureRange: -55C ~ 125C; TemperatureCoefficient: C0G, NP0; Tolerance: 5%; Type: High Q, Low Loss; Value: 33pF; PartId: 3801; Supplier 1: Digi-Key; Supplier Part Number 1: 490-5901-2-ND; ComponentLink1Description: Datasheet; ComponentLink1URL: http://www.murata.com/~/media/webrenewal/support/library/catalog/products/capacitor/mlcc/c02e.ashx; ComponentLink2Description: Digi-Key listing; ComponentLink2URL: http://digikey.com/product-detail/en/GQM1875C2E330JB12D/490-5901-2-ND/2593424; Voltage: 250V; Price: 0.303; Device Package: 0603 (1608 Metric)
footprint CAP 0603/1608 RF
pins: 1, 2

## GQM1875C2E470JB12D
designator C?, comment 47pF
CAP CER 47PF 250V NP0 0603; Part Number: GQM1875C2E470JB12D; Manufacturer: Murata Electronics North America; TemperatureRange: -55C ~ 125C; TemperatureCoefficient: C0G, NP0; Tolerance: 5%; Type: High Q, Low Loss; Value: 47pF; PartId: 3846; Supplier 1: Digi-Key; Supplier Part Number 1: 490-5900-2-ND; ComponentLink1Description: Datasheet; ComponentLink1URL: http://www.murata.com/~/media/webrenewal/support/library/catalog/products/capacitor/mlcc/c02e.ashx; ComponentLink2Description: Digi-Key listing; ComponentLink2URL: http://digikey.com/product-detail/en/GQM1875C2E470JB12D/490-5900-2-ND/2593440; Voltage: 250V; Price: 0.303; Device Package: 0603 (1608 Metric)
footprint CAP 0603/1608 RF
pins: 1, 2

## GQM1875C2E560GB12D
designator C?, comment 56pF
CAP CER 56PF 250V NP0 0603; Part Number: GQM1875C2E560GB12D; Manufacturer: Murata Electronics North America; TemperatureRange: -55C ~ 125C; TemperatureCoefficient: C0G, NP0; Tolerance: 2%; Type: High Q, Low Loss; Value: 56pF; PartId: 3833; Supplier 1: Digi-Key; Supplier Part Number 1: 490-7174-2-ND; ComponentLink1Description: Datasheet; ComponentLink1URL: http://www.murata.com/~/media/webrenewal/support/library/catalog/products/capacitor/mlcc/c02e.ashx; ComponentLink2Description: Digi-Key listing; ComponentLink2URL: http://digikey.com/product-detail/en/GQM1875C2E560GB12D/490-7174-2-ND/3900470; Voltage: 250V; Price: 0.2841; Device Package: 0603 (1608 Metric)
footprint CAP 0603/1608 RF
pins: 1, 2

## GQM1875C2E560JB12D
designator C?, comment 56pF
CAP CER 56PF 250V NP0 0603; Part Number: GQM1875C2E560JB12D; Manufacturer: Murata Electronics North America; TemperatureRange: -55C ~ 125C; TemperatureCoefficient: C0G, NP0; Tolerance: 5%; Type: High Q, Low Loss; Value: 56pF; PartId: 3839; Supplier 1: Digi-Key; Supplier Part Number 1: 490-7175-2-ND; ComponentLink1Description: Datasheet; ComponentLink1URL: http://www.murata.com/~/media/webrenewal/support/library/catalog/products/capacitor/mlcc/c02e.ashx; ComponentLink2Description: Digi-Key listing; ComponentLink2URL: http://digikey.com/product-detail/en/GQM1875C2E560JB12D/490-7175-2-ND/3900478; Voltage: 250V; Price: 0.1915; Device Package: 0603 (1608 Metric)
footprint CAP 0603/1608 RF
pins: 1, 2

## GQM1875C2E680GB12D
designator C?, comment 68pF
CAP CER 68PF 250V NP0 0603; Part Number: GQM1875C2E680GB12D; Manufacturer: Murata Electronics North America; TemperatureRange: -55C ~ 125C; TemperatureCoefficient: C0G, NP0; Tolerance: 2%; Type: High Q, Low Loss; Value: 68pF; PartId: 3832; Supplier 1: Digi-Key; Supplier Part Number 1: 490-7176-2-ND; ComponentLink1Description: Datasheet; ComponentLink1URL: http://www.murata.com/~/media/webrenewal/support/library/catalog/products/capacitor/mlcc/c02e.ashx; ComponentLink2Description: Digi-Key listing; ComponentLink2URL: http://digikey.com/product-detail/en/GQM1875C2E680GB12D/490-7176-2-ND/3900477; Voltage: 250V; Price: 0.2841; Device Package: 0603 (1608 Metric)
footprint CAP 0603/1608 RF
pins: 1, 2

## GQM1875C2E680JB12D
designator C?, comment 68pF
CAP CER 68PF 250V NP0 0603; Part Number: GQM1875C2E680JB12D; Manufacturer: Murata Electronics North America; TemperatureRange: -55C ~ 125C; TemperatureCoefficient: C0G, NP0; Tolerance: 5%; Type: High Q, Low Loss; Value: 68pF; PartId: 3840; Supplier 1: Digi-Key; Supplier Part Number 1: 490-7177-2-ND; ComponentLink1Description: Datasheet; ComponentLink1URL: http://www.murata.com/~/media/webrenewal/support/library/catalog/products/capacitor/mlcc/c02e.ashx; ComponentLink2Description: Digi-Key listing; ComponentLink2URL: http://digikey.com/product-detail/en/GQM1875C2E680JB12D/490-7177-2-ND/3900476; Voltage: 250V; Price: 0.1915; Device Package: 0603 (1608 Metric)
footprint CAP 0603/1608 RF
pins: 1, 2

## GQM1875C2E820JB12D
designator C?, comment 82pF
CAP CER 82PF 250V NP0 0603; Part Number: GQM1875C2E820JB12D; Manufacturer: Murata Electronics North America; TemperatureRange: -55C ~ 125C; TemperatureCoefficient: C0G, NP0; Tolerance: 5%; Type: High Q, Low Loss; Value: 82pF; PartId: 3850; Supplier 1: Digi-Key; Supplier Part Number 1: 490-7179-2-ND; ComponentLink1Description: Datasheet; ComponentLink1URL: http://www.murata.com/~/media/webrenewal/support/library/catalog/products/capacitor/mlcc/c02e.ashx; ComponentLink2Description: Digi-Key listing; ComponentLink2URL: http://digikey.com/product-detail/en/GQM1875C2E820JB12D/490-7179-2-ND/3900479; Voltage: 250V; Price: 0.1915; Device Package: 0603 (1608 Metric)
footprint CAP 0603/1608 RF
pins: 1, 2

## GQM1885C1H7R5CB01D
designator C?, comment 7.5pF
CAP CER 7.5PF 50V NP0 0603; Part Number: GQM1885C1H7R5CB01D; Manufacturer: Murata Electronics North America; TemperatureRange: -55C ~ 125C; TemperatureCoefficient: C0G, NP0; Tolerance: 0.25pF; Type: High Q, Low Loss; Value: 7.5pF; PartId: 3812; Supplier 1: Digi-Key; Supplier Part Number 1: 490-3565-2-ND; ComponentLink1Description: Datasheet; ComponentLink1URL: http://www.murata.com/~/media/webrenewal/support/library/catalog/products/capacitor/mlcc/c02e.ashx; ComponentLink2Description: Digi-Key listing; ComponentLink2URL: http://digikey.com/product-detail/en/GQM1885C1H7R5CB01D/490-3565-2-ND/789499; Voltage: 50V; Price: 0.1848; Device Package: 0603 (1608 Metric)
footprint CAP 0603/1608 RF
pins: 1, 2

## GQM1885C1H8R2CB01D
designator C?, comment 8.2pF
CAP CER 8.2PF 50V NP0 0603; Part Number: GQM1885C1H8R2CB01D; Manufacturer: Murata Electronics North America; TemperatureRange: -55C ~ 125C; TemperatureCoefficient: C0G, NP0; Tolerance: 0.25pF; Type: High Q, Low Loss; Value: 8.2pF; PartId: 3810; Supplier 1: Digi-Key; Supplier Part Number 1: 490-3567-2-ND; ComponentLink1Description: Datasheet; ComponentLink1URL: http://www.murata.com/~/media/webrenewal/support/library/catalog/products/capacitor/mlcc/c02e.ashx; ComponentLink2Description: Digi-Key listing; ComponentLink2URL: http://digikey.com/product-detail/en/GQM1885C1H8R2CB01D/490-3567-2-ND/789501; Voltage: 50V; Price: 0.1848; Device Package: 0603 (1608 Metric)
footprint CAP 0603/1608 RF
pins: 1, 2

## GQM1885C1H9R0CB01D
designator C?, comment 9pF
CAP CER 9PF 50V NP0 0603; Part Number: GQM1885C1H9R0CB01D; Manufacturer: Murata Electronics North America; TemperatureRange: -55C ~ 125C; TemperatureCoefficient: C0G, NP0; Tolerance: 0.25pF; Type: High Q, Low Loss; Value: 9pF; PartId: 3811; Supplier 1: Digi-Key; Supplier Part Number 1: 490-3568-2-ND; ComponentLink1Description: Datasheet; ComponentLink1URL: http://www.murata.com/~/media/webrenewal/support/library/catalog/products/capacitor/mlcc/c02e.ashx; ComponentLink2Description: Digi-Key listing; ComponentLink2URL: http://digikey.com/product-detail/en/GQM1885C1H9R0CB01D/490-3568-2-ND/789502; Voltage: 50V; Price: 0.1848; Device Package: 0603 (1608 Metric)
footprint CAP 0603/1608 RF
pins: 1, 2